# Altium footprint library SCMLI_V31.PcbLib: 32 footprints (part 1 of 2)
Each footprint in its own frame and in the unit in brackets; x right, y up, seen from the top. Pads: shape width x height; smd on the part's side, far side on the other; paste and mask are expansions set on the pad; w line width, h text height; cw(c..) or ccw(c..) is an arc to the next point about the centre after c.
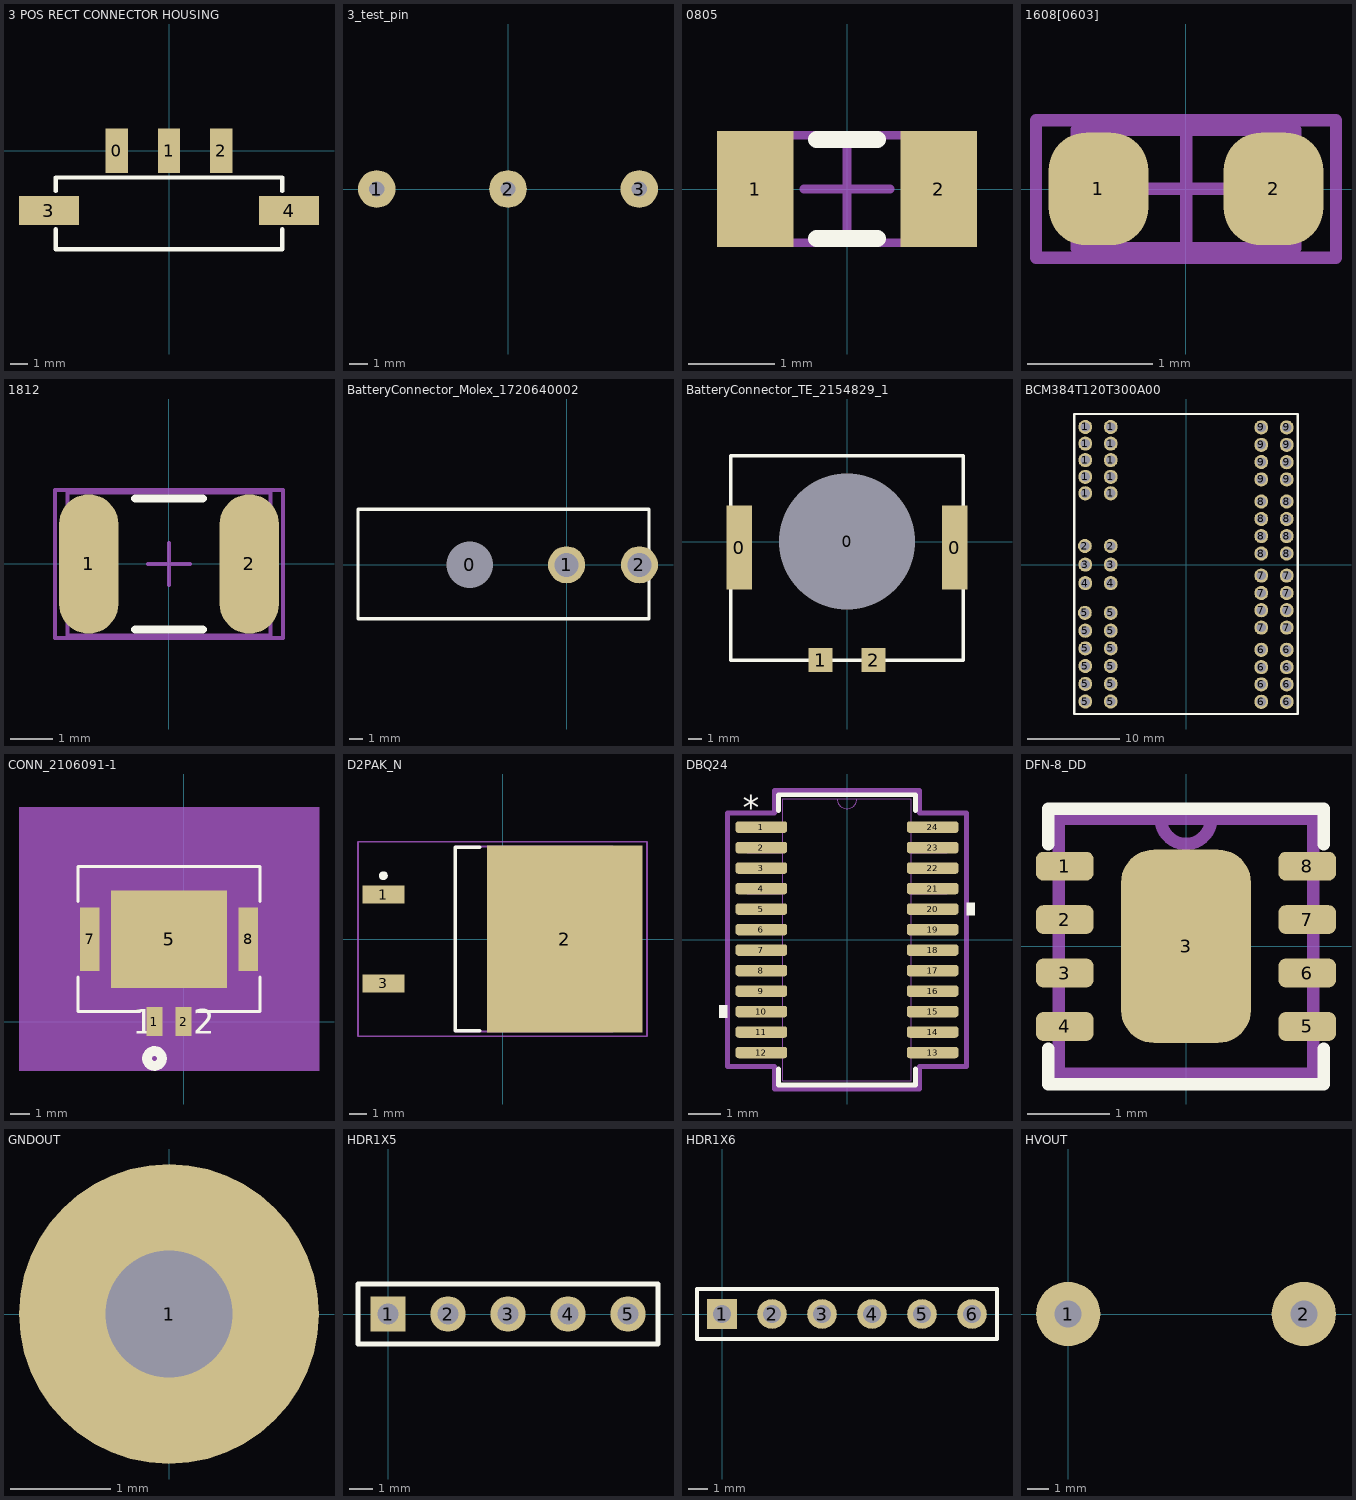
[diagram p0: the footprints below, top view; thin cyan lines are the x and y axes]

## 3 POS RECT CONNECTOR HOUSING [mm]
pads (5):
  rect 1.27x2.54 smd: 0(-3,0) 1(0,0) 2(3,0)
  rect 3.43x1.65 smd: 3(-6.885,-3.42) 4(6.885,-3.42)
Top Overlay:
  lines w0.254: -6.5,-4.5 -6.5,-5.64 6.5,-5.64 6.5,-4.5 ; -6.5,-2.3 -6.5,-1.524 6.5,-1.524 6.5,-2.3
3D body "436500324.stp": height 9.95, standoff 0.02, extent -8.325,-5.97 8.325,0.6

## 3_test_pin [mm]
pads (3):
  round 2 hole 0.8: 1(-7,0) 2(0,0) 3(7,0)

## 0805 [mil] "Chip Inductor 2-Leads, Body 2.0x1.2mm, IPC Medium Density"
height 49.21
pads (2):
  rect 35x53.15 smd: 1(-42,0) 2(42,0)
Top Overlay:
  lines w7.87: -13.78,-22.64 13.78,-22.64 ; -13.78,22.64 13.78,22.64
Mechanical 13:
  lines w3.94: -40.35,-24.61 40.35,-24.61 40.35,24.61 -40.35,24.61 -40.35,-24.61
Mechanical 15:
  lines w3.94: -19.68,0 19.69,0 ; 0,-19.68 0,19.68
3D body: height 49.21, standoff 0, extent -40.35,-24.61 40.35,24.61

## 1608[0603] [mm] "Chip Capacitor, Body 1.6x0.8mm, IPC High Density"
height 1.3
pads (2):
  rrect75% 0.8x0.9 smd: 1(-0.7,0) 2(0.7,0)
Mechanical 13:
  lines w0.1: -0.875,-0.475 0.875,-0.475 0.875,0.475 -0.875,0.475 -0.875,-0.475
Mechanical 15:
  lines w0.1: -0.475,0 0.475,0 ; 0,-0.475 0,0.475 ; -1.2,-0.55 1.2,-0.55 1.2,0.55 -1.2,0.55 -1.2,-0.55
3D body: height 1.3, standoff 0, extent -0.875,-0.475 0.875,0.475

## 1812 [mm] "Chip Capacitor, Body 4.5x3.2mm, IPC High Density"
height 1.4
pads (2):
  rrect100% 1.4x3.3 smd: 1(-1.9,0) 2(1.9,0)
Top Overlay:
  lines w0.2: -0.8,-1.55 0.8,-1.55 ; -0.8,1.55 0.8,1.55
Mechanical 13:
  lines w0.1: -2.4,-1.7 2.4,-1.7 2.4,1.7 -2.4,1.7 -2.4,-1.7
Mechanical 15:
  lines w0.1: -0.5,0 0.5,0 ; 0,-0.5 0,0.5 ; -2.7,-1.75 2.7,-1.75 2.7,1.75 -2.7,1.75 -2.7,-1.75
3D body: height 1.4, standoff 0, extent -2.4,-1.7 2.4,1.7

## BatteryConnector_Molex_1720640002 [mm]
pads (3):
  round 3 hole 3.5 unplated paste+0 mask+0: 0(-7.3,0)
  round 2.8 hole 1.8: 1(0,0) 2(5.5,0)
Top Overlay:
  lines w0.254: -15.748,-4.064 6.223,-4.064 6.223,4.191 -15.748,4.191 -15.748,-4.064
3D body "1720640002.stp": height 15.05, standoff -3.08, extent -15.739,-4.158 6.223,4.191

## BatteryConnector_TE_2154829_1 [mm]
pads (5):
  rect 1.9x6.3 smd: 0(-8.08,-0.45) 0(8.08,-0.45)
  round 1.524 hole 10.2 square unplated paste+0 mask+0: 0(0,0)
  rect 1.8x1.8 smd: 1(-1.98,-8.88) 2(2,-8.88)
Top Overlay:
  lines w0.254: -8.69,-8.89 -8.69,6.42 8.69,6.42 8.69,-8.89 -8.69,-8.89

## BCM384T120T300A00 [mil] "Vicor 12V 300W DCDC"
pads (60):
  oval 59x60 hole 39: 1(-428,303) 1(-428,373) 1(-428,444) 1(-428,514) 1(-428,585) 1(-320,303) 1(-320,373) 1(-320,444) 1(-320,514) 1(-320,585) 2(-430,79) 2(-320,79) 3(-428,0) 3(-320,0) 4(-428,-79) 4(-320,-79) 5(-430,-205) 5(-428,-582) 5(-428,-507) 5(-428,-431) 5(-428,-356) 5(-428,-281) 5(-320,-582) 5(-320,-507) 5(-320,-431) 5(-320,-356) 5(-320,-281) 5(-320,-205) 6(320,-583) 6(320,-509) 6(320,-436) 6(320,-362) 6(428,-583) 6(428,-509) 6(428,-436) 6(428,-362) 7(320,-268) 7(320,-194) 7(320,-121) 7(320,-47) 7(428,-268) 7(428,-194) 7(428,-121) 7(428,-47) 8(320,47) 8(320,121) 8(320,194) 8(320,268) 8(428,47) 8(428,121) 8(428,194) 8(428,268) 9(320,362) 9(320,436) 9(320,509) 9(320,583) 9(428,362) 9(428,435) 9(428,509) 9(428,583)
Top Overlay:
  lines w10: -475,-635 475,-635 475,640 -475,640 -475,-635

## CONN_2106091-1 [mil]
pads (5):
  rect 32x59 smd: 1(-59.06,0) 2(0,0)
  rect 236x197 smd: 5(-29.53,167)
  rect 39x128 smd: 7(-190.53,167) 8(131.47,167)
Top Overlay:
  circle w20: c-59.06,-75 r15
  lines w6: -214.03,90.53 -214.03,20 -88.16,20 ; -214.03,243.47 -214.03,315 154.97,315 154.97,243.47 ; 29.1,20 154.97,20 154.97,90.53
  text "2" at 19.5,-25 h50
  text "2" at 19.5,-25 h50
  text "1" at -103.56,-25 h50
  text "1" at -103.56,-25 h50
Bottom Overlay:
  circle w20: c-59.06,-75 r15
  text "2" at 44.5,-25 h50
  text "2" at 44.5,-25 h50
  text "1" at -78.56,-25 h50
  text "1" at -78.56,-25 h50
Mechanical 5:
  region: -334.03,435 274.97,435 274.97,-100 -334.03,-100
Mechanical 13:
  circle w20: c-59.06,-75 r15
  lines w1: -209.03,25 -209.03,310 149.97,310 149.97,25 -209.03,25
  text "2" at 19.5,-25 h50
  text "2" at 19.5,-25 h50
  text "1" at -103.56,-25 h50
  text "1" at -103.56,-25 h50
Mechanical 15:
  region: 160.97,320 -220.03,320 -220.03,-39.5 160.97,-39.5
  lines w6: -220.03,-39.5 160.97,-39.5 160.97,320 -220.03,320 -220.03,-39.5
3D body: height 10, standoff 0, extent 0,0 10,10

## D2PAK_N [mm] "D2-PAK, 4-Leads, Body 8.8x10.4mm, Pitch 2.54mm, Lead Span 15.1mm, IPC Medium Density"
height 4.69
pads (3):
  rect 2.4x1.05 smd: 1(-6.8,2.54) 3(-6.8,-2.54)
  rect 8.9x10.65 smd: 2(3.55,0)
Top Overlay:
  circle w0.25: c-6.8,3.615 r0.125
  lines w0.2: -1.3,-5.25 -2.7,-5.25 -2.7,5.25 -1.3,5.25
Mechanical 13:
  lines w0.1: -2.7,-5.275 6.3,-5.275 6.3,5.275 -2.7,5.275 -2.7,-5.275
Mechanical 15:
  lines w0.1: -0.5,0 0.5,0 ; 0,-0.5 0,0.5 ; -8.25,-5.55 8.25,-5.55 8.25,5.55 -8.25,5.55 -8.25,-5.55
3D body: height 4.69, standoff 0, extent -2.7,-5.275 6.3,5.275

## DBQ24 [mil]
pads (24):
  rrect50% 63x14 smd paste+0 mask+0: 1(-104.5,137.5) 2(-104.5,112.5) 3(-104.5,87.5) 4(-104.5,62.5) 5(-104.5,37.5) 6(-104.5,12.5) 7(-104.5,-12.5) 8(-104.5,-37.5) 9(-104.5,-62.5) 10(-104.5,-87.5) 11(-104.5,-112.5) 12(-104.5,-137.5) 13(104.5,-137.5) 14(104.5,-112.5) 15(104.5,-87.5) 16(104.5,-62.5) 17(104.5,-37.5) 18(104.5,-12.5) 19(104.5,12.5) 20(104.5,37.5) 21(104.5,62.5) 22(104.5,87.5) 23(104.5,112.5) 24(104.5,137.5)
Top Overlay:
  region: -146,-80 -156,-80 -156,-95 -146,-95
  region: 146,45 156,45 156,30 146,30
  lines w6: -83.5,-157.6 -83.5,-177 83.5,-177 83.5,-157.6 ; -83.5,157.6 -83.5,177 83.5,177 83.5,157.6
  text "*" at -127,146.5 h30
Mechanical 13:
  lines w0: -12,172 ccw(c0,172) 12,172
  lines w1: -122,-143.5 -122,-131.5 -78.5,-131.5 -78.5,-143.5 -122,-143.5 ; -122,-118.5 -122,-106.5 -78.5,-106.5 -78.5,-118.5 -122,-118.5 ; -122,-93.5 -122,-81.5 -78.5,-81.5 -78.5,-93.5 -122,-93.5 ; -122,-68.5 -122,-56.5 -78.5,-56.5 -78.5,-68.5 -122,-68.5 ; -122,-43.5 -122,-31.5 -78.5,-31.5 -78.5,-43.5 -122,-43.5 ; -122,-18.5 -122,-6.5 -78.5,-6.5 -78.5,-18.5 -122,-18.5 ; -122,6.5 -122,18.5 -78.5,18.5 -78.5,6.5 -122,6.5 ; -122,31.5 -122,43.5 -78.5,43.5 -78.5,31.5 -122,31.5 ; -122,56.5 -122,68.5 -78.5,68.5 -78.5,56.5 -122,56.5 ; -122,81.5 -122,93.5 -78.5,93.5 -78.5,81.5 -122,81.5 ; -122,106.5 -122,118.5 -78.5,118.5 -78.5,106.5 -122,106.5 ; -122,131.5 -122,143.5 -78.5,143.5 -78.5,131.5 -122,131.5 ; -78.5,-172 78.5,-172 78.5,172 -78.5,172 -78.5,-172 ; 78.5,-143.5 78.5,-131.5 122,-131.5 122,-143.5 78.5,-143.5 ; 78.5,-118.5 78.5,-106.5 122,-106.5 122,-118.5 78.5,-118.5 ; 78.5,-93.5 78.5,-81.5 122,-81.5 122,-93.5 78.5,-93.5 ; 78.5,-68.5 78.5,-56.5 122,-56.5 122,-68.5 78.5,-68.5 ; 78.5,-43.5 78.5,-31.5 122,-31.5 122,-43.5 78.5,-43.5 ; 78.5,-18.5 78.5,-6.5 122,-6.5 122,-18.5 78.5,-18.5 ; 78.5,6.5 78.5,18.5 122,18.5 122,6.5 78.5,6.5 ; 78.5,31.5 78.5,43.5 122,43.5 122,31.5 78.5,31.5 ; 78.5,56.5 78.5,68.5 122,68.5 122,56.5 78.5,56.5 ; 78.5,81.5 78.5,93.5 122,93.5 122,81.5 78.5,81.5 ; 78.5,106.5 78.5,118.5 122,118.5 122,106.5 78.5,106.5 ; 78.5,131.5 78.5,143.5 122,143.5 122,131.5 78.5,131.5
  text "*" at -76,119 h30
Mechanical 15:
  lines w6: -146,-154.5 -146,154.5 -88.5,154.5 -88.5,182 88.5,182 88.5,154.5 146,154.5 146,-154.5 88.5,-154.5 88.5,-182 -88.5,-182 -88.5,-154.5 -146,-154.5

## DFN-8_DD [mm]
pads (9):
  rrect50% 0.7x0.35 smd: 1(-1.475,0.975) 2(-1.475,0.325) 3(-1.475,-0.325) 4(-1.475,-0.975) 5(1.475,-0.975) 6(1.475,-0.325) 7(1.475,0.325) 8(1.475,0.975)
  rrect50% 1.58x2.35 smd: 3(0,0)
Top Overlay:
  lines w0.152: -1.676,-1.245 -1.676,-1.676 1.676,-1.676 1.676,-1.245 ; -1.676,1.245 -1.676,1.676 1.676,1.676 1.676,1.245
Top Paste:
  region: -0.876,1.245 -0.876,-1.245 0.876,-1.245 0.876,1.245
Mechanical 4:
  lines w0.152: -1.549,-1.549 1.549,-1.549 ; -1.549,-1.549 -1.549,1.549 ; -1.549,-1.549 1.549,-1.549 ; -1.549,-1.549 -1.549,1.549 ; -1.549,1.549 -0.305,1.549 ; -1.549,1.549 -0.305,1.549 ; -0.305,1.549 ccw(c0,1.549) 0.305,1.549 ; -0.305,1.549 ccw(c0,1.549) 0.305,1.549 ; -0.305,1.549 0.305,1.549 ; -0.305,1.549 0.305,1.549 ; 0.305,1.549 1.549,1.549 ; 0.305,1.549 1.549,1.549 ; 1.549,-1.549 1.549,1.549 ; 1.549,-1.549 1.549,1.549

## GNDOUT [mm]
pads (1):
  round 3 hole 1.27: 1(0,0)

## HDR1X5 [mm] "Connector; Header; 5 Position"
pads (5):
  rect 1.5x1.5 hole 0.9: 1(0,0)
  round 1.5 hole 0.9: 2(2.54,0) 3(5.08,0) 4(7.62,0) 5(10.16,0)
Top Overlay:
  lines w0.2: -1.27,-1.27 11.43,-1.27 11.43,1.27 -1.27,1.27 -1.27,-1.27

## HDR1X6 [mm] "Connector; Header; 6 Position"
pads (6):
  rect 1.5x1.5 hole 0.9: 1(0,0)
  round 1.5 hole 0.9: 2(2.54,0) 3(5.08,0) 4(7.62,0) 5(10.16,0) 6(12.7,0)
Top Overlay:
  lines w0.2: -1.27,-1.27 13.97,-1.27 13.97,1.27 -1.27,1.27 -1.27,-1.27

## HVOUT [mm]
pads (2):
  round 3 hole 1.27: 1(0,0) 2(11,0)